# Altium footprint library LINEFILTER-7x8mm.PcbLib: 1 footprints
Each footprint in its own frame and in the unit in brackets; x right, y up, seen from the top. Pads: shape width x height; smd on the part's side, far side on the other; paste and mask are expansions set on the pad; w line width, h text height; cw(c..) or ccw(c..) is an arc to the next point about the centre after c.
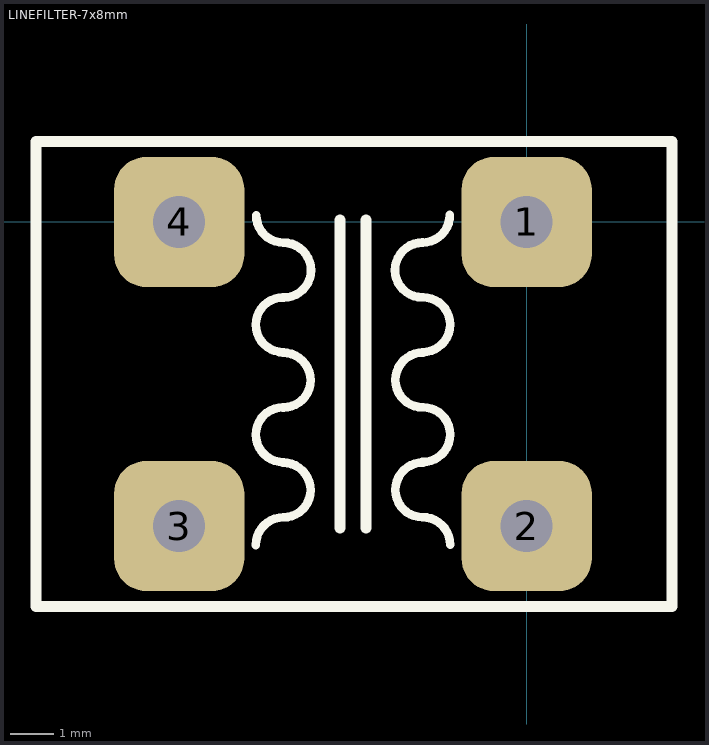
[diagram p0: the footprint, top view; thin cyan lines are the x and y axes]

## LINEFILTER-7x8mm [mm]
pads (4):
  rrect50% 3x3 hole 1.2: 1(0,0) 2(0,-7) 3(-8,-7) 4(-8,0)
Top Overlay:
  lines w0.2: -6.235,-7.435 cw(c-5.6,-7.435) -5.6,-6.8 ccw(c-5.6,-6.174) -4.974,-6.174 ccw(c-5.609,-6.174) -5.609,-5.539 ; -6.226,0.157 ccw(c-5.591,0.157) -5.591,-0.478 ; -5.609,-4.269 ccw(c-5.609,-4.895) -6.235,-4.895 ccw(c-5.6,-4.895) -5.6,-5.53 ; -5.609,-3.008 cw(c-5.609,-3.643) -4.974,-3.643 cw(c-5.6,-3.643) -5.6,-4.269 ; -5.609,-1.738 ccw(c-5.609,-2.364) -6.235,-2.364 ccw(c-5.6,-2.364) -5.6,-2.999 ; -5.6,-0.478 cw(c-5.6,-1.113) -4.965,-1.113 cw(c-5.591,-1.113) -5.591,-1.738 ; -2.405,-1.735 cw(c-2.405,-1.11) -3.031,-1.11 cw(c-2.396,-1.11) -2.396,-0.475 ; -2.405,-0.475 ccw(c-2.405,0.16) -1.77,0.16 ; -2.396,-5.527 ccw(c-2.396,-4.892) -1.761,-4.892 ccw(c-2.387,-4.892) -2.387,-4.266 ; -2.396,-4.266 cw(c-2.396,-3.64) -3.022,-3.64 cw(c-2.387,-3.64) -2.387,-3.005 ; -2.396,-2.996 ccw(c-2.396,-2.361) -1.761,-2.361 ccw(c-2.387,-2.361) -2.387,-1.735 ; -2.387,-5.536 ccw(c-2.387,-6.171) -3.022,-6.171 ccw(c-2.396,-6.171) -2.396,-6.797 cw(c-2.396,-7.432) -1.761,-7.432
  lines w0.254: -4.3,-7.05 -4.3,0.05 ; -3.7,-7.05 -3.7,0.05 ; -11.3,-8.85 3.35,-8.85 3.35,1.85 -11.3,1.85 -11.3,-8.85
3D body "filtr-ac-pins7x8.STEP": height 2.6, standoff -14.7, extent -11.35,-8.85 3.35,1.85